# Altium schematic symbol library Capstone_Schematic_Library.SchLib: 73 symbols
Pins are listed as number, name and electrical type; pins without a type are passive.

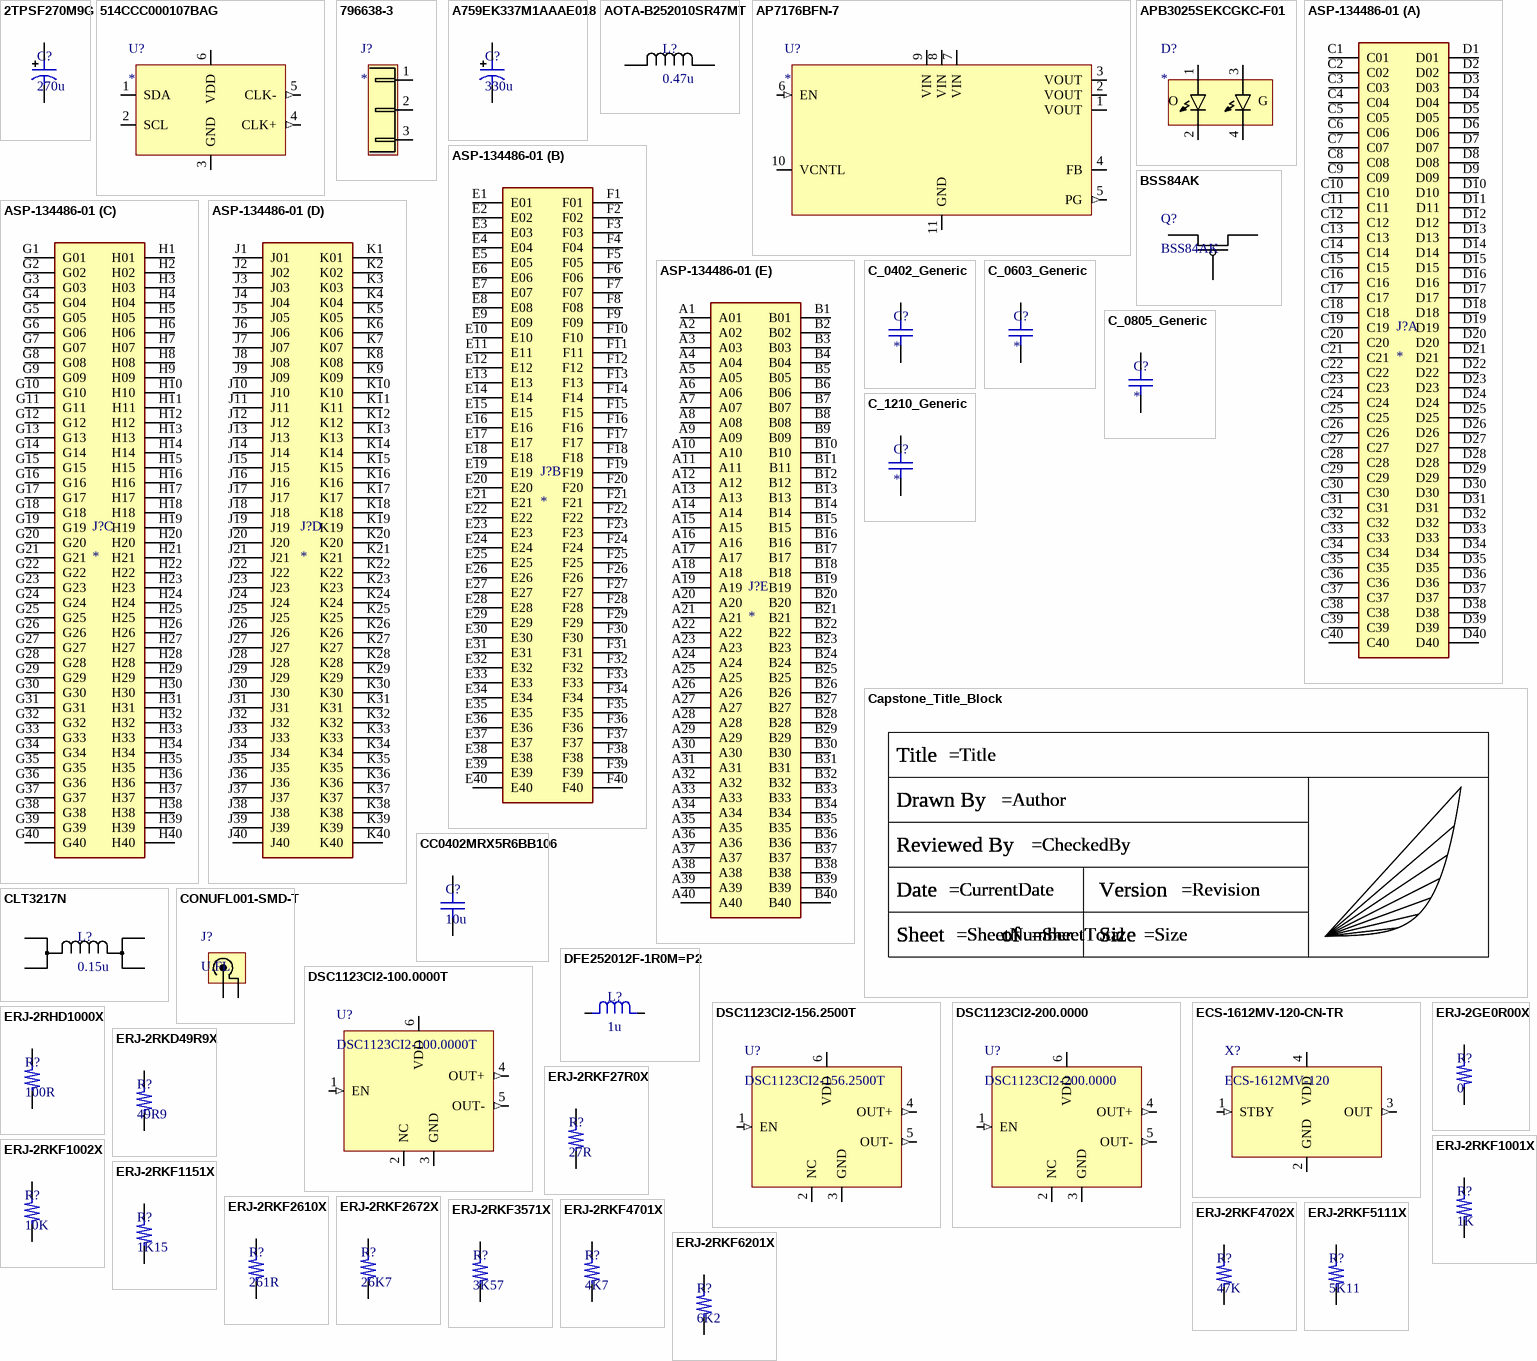
[diagram p0: symbols 2TPSF270M9G to ERJ-2RKF6201X]

## 2TPSF270M9G
designator C?, comment 270u
270µF 2V 9mOhm SMD tantalum capacitor in EIA-3528-21size; Manufacturer: Panasonic; Manufacturer Part Number: 2TPSF270M9G
footprint C_TANT_EIA-3528-21_A (Footprint for tantalum capacitors using the EIA-3528-21 package, adapted from KiCad)
pins: 1, 2

## 514CCC000107BAG
designator U?
I2C Programmable oscillator differential/single-ended 0.1-125 MHz; Manufacturer: Skyworks Solutions; Manufacturer Part Number: 514CCC000107BAG
footprint Si514_Size-B (Footprint for Skyworks Solutions's Si514 devices in the B case size (3.2 x 5.0 mm))
pins: 1 SDA (io), 2 SCL (io), 3 GND (power), 4 CLK+ (out), 5 CLK- (out), 6 VDD (power)

## 796638-3
designator J?
3 Position Terminal Block Header, Male Pins, Shrouded / NOTE: Mating wire-to-pin socket is 796635-3; Manufacturer: TE Connectivity; Manufacturer Part Number: 796638-3; Manufacturer2: TE Connectivity; Manufacturer2 Part Number: 796635-3
footprint TE_796638-3 (Footprint for TE Connectivity's 3-pin members of their 796638 series parts)
pins: 1 P1, 2 P2, 3 P3

## A759EK337M1AAAE018
designator C?, comment 330u
330µF 10V Aluminum polymer capacitor, KEMET EK; Manufacturer Part Number: A759EK337M1AAAE018; Manufacturer: KEMET
footprint KEMET_EK_Radial (Footprint for radial capacitors in KEMET's EK size)
pins: 1, 2

## AOTA-B252010SR47MT
designator L?, comment 0.47u
Inductor 0.47uH 5.7A 20mOhm, 1008 (2520 Metric); Manufacturer: Abracon; Manufacturer Part Number: AOTA-B252010SR47MT
footprint ABRACON_0907_L (Footprint for Abracon LLC's 0907 case inductors)
pins: 1 P1, 2 P2

## AP7176BFN-7
designator U?
LDO 0.8-3.12V 3A 10-UFDFN Diodes Incorporated; Manufacturer Part Number: AP7176BFN-7; Manufacturer: Diodes Incorporated
footprint DIODES_INC_U-DFN3030-10 (Footprint for Diodes Incorporated's U-DFN3030-10 package)
pins: 1 VOUT (power), 2 VOUT (power), 3 VOUT (power), 4 FB, 5 PG (out), 6 EN (in), 7 VIN (power), 8 VIN (power), 9 VIN (power), 10 VCNTL, 11 GND (power)

## APB3025SEKCGKC-F01
designator D?
LED 1210 Green/Orange dual 2.1Vf 160deg 60/300 mcd@20mA; Manufacturer: Kingbright; Manufacturer Part Number: APB3025SEKCGKC-F01
footprint KINGBRIGHT_1210_DUAL (Footprint for Kingbright's dual package 1210 LEDs)
pins: 1 A1, 2 C1, 3 A2, 4 C2
text: O; G

## ASP-134486-01
designator J?
400 Position Connector Array, Female Sockets Surface Mount Gold; Manufacturer: Samtec; Manufacturer Part Number: ASP-134486-01
footprint SAMTEC_ASP-134486-01
part A pins: C1 C01, C2 C02, C3 C03, C4 C04, C5 C05, C6 C06, C7 C07, C8 C08, C9 C09, C10, C11, C12, C13, C14, C15, C16, C17, C18, C19, C20, C21, C22, C23, C24, C25, C26, C27, C28, C29, C30, C31, C32, C33, C34, C35, C36, C37, C38, C39, C40, D1 D01, D2 D02, D3 D03, D4 D04, D5 D05, D6 D06, D7 D07, D8 D08, D9 D09, D10, D11, D12, D13, D14, D15, D16, D17, D18, D19, D20, D21, D22, D23, D24, D25, D26, D27, D28, D29, D30, D31, D32, D33, D34, D35, D36, D37, D38, D39, D40
part B pins: E1 E01, E2 E02, E3 E03, E4 E04, E5 E05, E6 E06, E7 E07, E8 E08, E9 E09, E10, E11, E12, E13, E14, E15, E16, E17, E18, E19, E20, E21, E22, E23, E24, E25, E26, E27, E28, E29, E30, E31, E32, E33, E34, E35, E36, E37, E38, E39, E40, F1 F01, F2 F02, F3 F03, F4 F04, F5 F05, F6 F06, F7 F07, F8 F08, F9 F09, F10, F11, F12, F13, F14, F15, F16, F17, F18, F19, F20, F21, F22, F23, F24, F25, F26, F27, F28, F29, F30, F31, F32, F33, F34, F35, F36, F37, F38, F39, F40
part C pins: G1 G01, G2 G02, G3 G03, G4 G04, G5 G05, G6 G06, G7 G07, G8 G08, G9 G09, G10, G11, G12, G13, G14, G15, G16, G17, G18, G19, G20, G21, G22, G23, G24, G25, G26, G27, G28, G29, G30, G31, G32, G33, G34, G35, G36, G37, G38, G39, G40, H1 H01, H2 H02, H3 H03, H4 H04, H5 H05, H6 H06, H7 H07, H8 H08, H9 H09, H10, H11, H12, H13, H14, H15, H16, H17, H18, H19, H20, H21, H22, H23, H24, H25, H26, H27, H28, H29, H30, H31, H32, H33, H34, H35, H36, H37, H38, H39, H40
part D pins: J1 J01, J2 J02, J3 J03, J4 J04, J5 J05, J6 J06, J7 J07, J8 J08, J9 J09, J10, J11, J12, J13, J14, J15, J16, J17, J18, J19, J20, J21, J22, J23, J24, J25, J26, J27, J28, J29, J30, J31, J32, J33, J34, J35, J36, J37, J38, J39, J40, K1 K01, K2 K02, K3 K03, K4 K04, K5 K05, K6 K06, K7 K07, K8 K08, K9 K09, K10, K11, K12, K13, K14, K15, K16, K17, K18, K19, K20, K21, K22, K23, K24, K25, K26, K27, K28, K29, K30, K31, K32, K33, K34, K35, K36, K37, K38, K39, K40
part E pins: A1 A01, A2 A02, A3 A03, A4 A04, A5 A05, A6 A06, A7 A07, A8 A08, A9 A09, A10, A11, A12, A13, A14, A15, A16, A17, A18, A19, A20, A21, A22, A23, A24, A25, A26, A27, A28, A29, A30, A31, A32, A33, A34, A35, A36, A37, A38, A39, A40, B1 B01, B2 B02, B3 B03, B4 B04, B5 B05, B6 B06, B7 B07, B8 B08, B9 B09, B10, B11, B12, B13, B14, B15, B16, B17, B18, B19, B20, B21, B22, B23, B24, B25, B26, B27, B28, B29, B30, B31, B32, B33, B34, B35, B36, B37, B38, B39, B40

## BSS84AK
designator Q?
PMOS 50V 180mA TO236AB NXP/Nexperia; Manufacturer Part Number: BSS84AK,215; Manufacturer: NXP/Nexperia
footprint SOT23 _TO-236AB (Generic footrpint for SOT23/TO-236AB devices)
pins: 1 G, 2 S, 3 D

## C_0402_Generic
designator C?
Generic SMD ceramic capacitor in 0402 size; Manufacturer: *; Manufacturer Part Number: *
footprint C_0402_Generic (Generic 0402 capacitor footprint based on the KiCad default library)
pins: 1, 2

## C_0603_Generic
designator C?
Generic SMD ceramic capacitor in 0603 size; Manufacturer: *; Manufacturer Part Number: *
footprint C_0603_Generic (Generic 0603 capacitor footprint based on the KiCad default library)
pins: 1, 2

## C_0805_Generic
designator C?
Generic SMD ceramic capacitor in 0805 size; Manufacturer: *; Manufacturer Part Number: *
footprint C_0805_Generic (Generic 0805 capacitor footprint based on the KiCad default library)
pins: 1, 2

## C_1210_Generic
designator C?
Generic SMD ceramic capacitor in 1210 size; Manufacturer: *; Manufacturer Part Number: *
footprint C_1210_GENERIC (Generic 1210 capacitor footprint based on the KiCad default library)
pins: 1, 2

## Capstone_Title_Block
designator TITLEBLOCK?  (value not drawn)  (graphical)
Custom title block with personal logo; Manufacturer: NONE; Manufacturer Part Number: NONE
text: Title; Drawn By; Reviewed By; Date; Version; Sheet; of; Size

## CC0402MRX5R6BB106
designator C?, comment 10u
10µF 10V X5R SMD ceramic capacitor in 0402 size; Manufacturer: YAGEO; Manufacturer Part Number: CC0402MRX5R6BB106
footprint C_0402_Generic (Generic 0402 capacitor footprint based on the KiCad default library)
pins: 1, 2

## CLT3217N
designator L?, comment 0.15u
Inductor 150nH 3.3mOhm 25.4A AEC-Q200, TDK; Manufacturer: EPCOS/TDK; Manufacturer Part Number: CLT32-17N
footprint TDK_CLT32 (TDK Power Inductors, 3.2 x 2.5 x 2.5 (mm))
pins: 1 P1, 2 P2, 3 P3, 4 P4

## CONUFL001-SMD-T
designator J?, comment U.FL
U.FL (UMCC) Connector, SMD, 50Ohm; Manufacturer: TE Connectivity; Manufacturer Part Number: CONUFL001-SMD-T
footprint TE_IPEX (Footprint for TE Connectivity's U.FL (UMCC) connectors)
pins: 1 RF, 2 GND

## DFE252012F-1R0M=P2
designator L?, comment 1u
1µH Shielded 3.3A 40mOhm 1008 Inductor; Manufacturer: Murata Electronics; Manufacturer Part Number: DFE252012F-1R0M=P2
footprint Murata_Ind_1008
pins: 1, 2

## DSC1123CI2-100.0000T
designator U?
MEMS OSC XO 100.0000MHZ LVDS SMD; Manufacturer: Microchip Technology; Manufacturer Part Number: DSC1123CI2-100.0000T
footprint Microchip_DSC1123CI2 (A footprint for a Microchip Technology DSC1123 series oscillator in 6-VDFN size)
pins: 1 EN (in), 2 NC, 3 GND (power), 4 OUT+ (out), 5 OUT- (out), 6 VDD (power)

## DSC1123CI2-156.2500T
designator U?
MEMS OSC XO 156.2500MHZ LVDS SMD; Manufacturer: Microchip Technology; Manufacturer Part Number: DSC1123CI2-156.2500T
footprint Microchip_DSC1123CI2 (A footprint for a Microchip Technology DSC1123 series oscillator in 6-VDFN size)
pins: 1 EN (in), 2 NC, 3 GND (power), 4 OUT+ (out), 5 OUT- (out), 6 VDD (power)

## DSC1123CI2-200.0000
designator U?
MEMS OSC XO 200.0000MHZ LVDS SMD; Manufacturer: Microchip Technology; Manufacturer Part Number: DSC1123CI2-200.0000
footprint Microchip_DSC1123CI2 (A footprint for a Microchip Technology DSC1123 series oscillator in 6-VDFN size)
pins: 1 EN (in), 2 NC, 3 GND (power), 4 OUT+ (out), 5 OUT- (out), 6 VDD (power)

## ECS-1612MV-120-CN-TR
designator X?, comment ECS-1612MV-120
12 MHz XO (Standard) CMOS Oscillator 1.6V ~ 3.63V Standby (Power Down) 4-SMD, No Lead; Manufacturer: ECS Inc; Manufacturer Part Number: ECS-1612MV-120-CN-TR
footprint ECS 4-SMD (1.6X1.2) (Footprint for ECS Inc's 4-SMD 0.063" L x 0.047" W (1.60mm x 1.20mm) package)
pins: 1 STBY (in), 2 GND (power), 3 OUT (out), 4 VDD (power)

## ERJ-2GE0R00X
designator R?, comment 0
Jumper 0Ohm SMD resistor in 0402 size; Manufacturer: Panasonic; Manufacturer Part Number: ERJ-2GE0R00X
footprint R_0402_Generic (Generic 0402 resistor footprint based on the KiCad default library)
pins: 1, 2

## ERJ-2RHD1000X
designator R?, comment 100R
100Ohm 0.5% 1/16W SMD resistor in 0402 size; Manufacturer: Panasonic; Manufacturer Part Number: ERJ-2RHD1000X
footprint R_0402_Generic (Generic 0402 resistor footprint based on the KiCad default library)
pins: 1, 2

## ERJ-2RKD49R9X
designator R?, comment 49R9
49.9Ohm 0.5% 1/16W SMD resistor in 0402 size; Manufacturer: Panasonic; Manufacturer Part Number: ERJ-2RKD49R9X
footprint R_0402_Generic (Generic 0402 resistor footprint based on the KiCad default library)
pins: 1, 2

## ERJ-2RKF27R0X
designator R?, comment 27R
27Ohm 1% 1/10W SMD resistor in 0402 size; Manufacturer: Panasonic; Manufacturer Part Number: ERJ-2RKF27R0X
footprint R_0402_Generic (Generic 0402 resistor footprint based on the KiCad default library)
pins: 1, 2

## ERJ-2RKF1001X
designator R?, comment 1K
1KOhm 1% 1/10W SMD resistor in 0402 size; Manufacturer: Panasonic; Manufacturer Part Number: ERJ-2RKF1001X
footprint R_0402_Generic (Generic 0402 resistor footprint based on the KiCad default library)
pins: 1, 2

## ERJ-2RKF1002X
designator R?, comment 10K
10KOhm 1% 1/10W SMD resistor in 0402 size; Manufacturer: Panasonic; Manufacturer Part Number: ERJ-2RKF1002X
footprint R_0402_Generic (Generic 0402 resistor footprint based on the KiCad default library)
pins: 1, 2

## ERJ-2RKF1151X
designator R?, comment 1K15
1.15KOhm 1% 1/10W SMD resistor in 0402 size; Manufacturer: Panasonic; Manufacturer Part Number: ERJ-2RKF1151X
footprint R_0402_Generic (Generic 0402 resistor footprint based on the KiCad default library)
pins: 1, 2

## ERJ-2RKF2610X
designator R?, comment 261R
261Ohm 1% 1/10W SMD resistor in 0402 size; Manufacturer: Panasonic; Manufacturer Part Number: ERJ-2RKF2610X
footprint R_0402_Generic (Generic 0402 resistor footprint based on the KiCad default library)
pins: 1, 2

## ERJ-2RKF2672X
designator R?, comment 26K7
26.7KOhm 1% 1/10W SMD resistor in 0402 size; Manufacturer: Panasonic; Manufacturer Part Number: ERJ-2RKF2672X
footprint R_0402_Generic (Generic 0402 resistor footprint based on the KiCad default library)
pins: 1, 2

## ERJ-2RKF3571X
designator R?, comment 3K57
3.57KOhm 1% 1/10W SMD resistor in 0402 size; Manufacturer: Panasonic; Manufacturer Part Number: ERJ-2RKF3571X
footprint R_0402_Generic (Generic 0402 resistor footprint based on the KiCad default library)
pins: 1, 2

## ERJ-2RKF4701X
designator R?, comment 4K7
4.7KOhm 1% 1/10W SMD resistor in 0402 size; Manufacturer: Panasonic; Manufacturer Part Number: ERJ-2RKF4701X
footprint R_0402_Generic (Generic 0402 resistor footprint based on the KiCad default library)
pins: 1, 2

## ERJ-2RKF4702X
designator R?, comment 47K
47KOhm 1% 1/10W SMD resistor in 0402 size; Manufacturer: Panasonic; Manufacturer Part Number: ERJ-2RKF4702X
footprint R_0402_Generic (Generic 0402 resistor footprint based on the KiCad default library)
pins: 1, 2

## ERJ-2RKF5111X
designator R?, comment 5K11
5.11KOhm 1% 1/10W SMD resistor in 0402 size; Manufacturer: Panasonic; Manufacturer Part Number: ERJ-2RKF5111X
footprint R_0402_Generic (Generic 0402 resistor footprint based on the KiCad default library)
pins: 1, 2

## ERJ-2RKF6201X
designator R?, comment 6K2
6.2KOhm 1% 1/10W SMD resistor in 0402 size; Manufacturer: Panasonic; Manufacturer Part Number: ERJ-2RKF6201X
footprint R_0402_Generic (Generic 0402 resistor footprint based on the KiCad default library)
pins: 1, 2

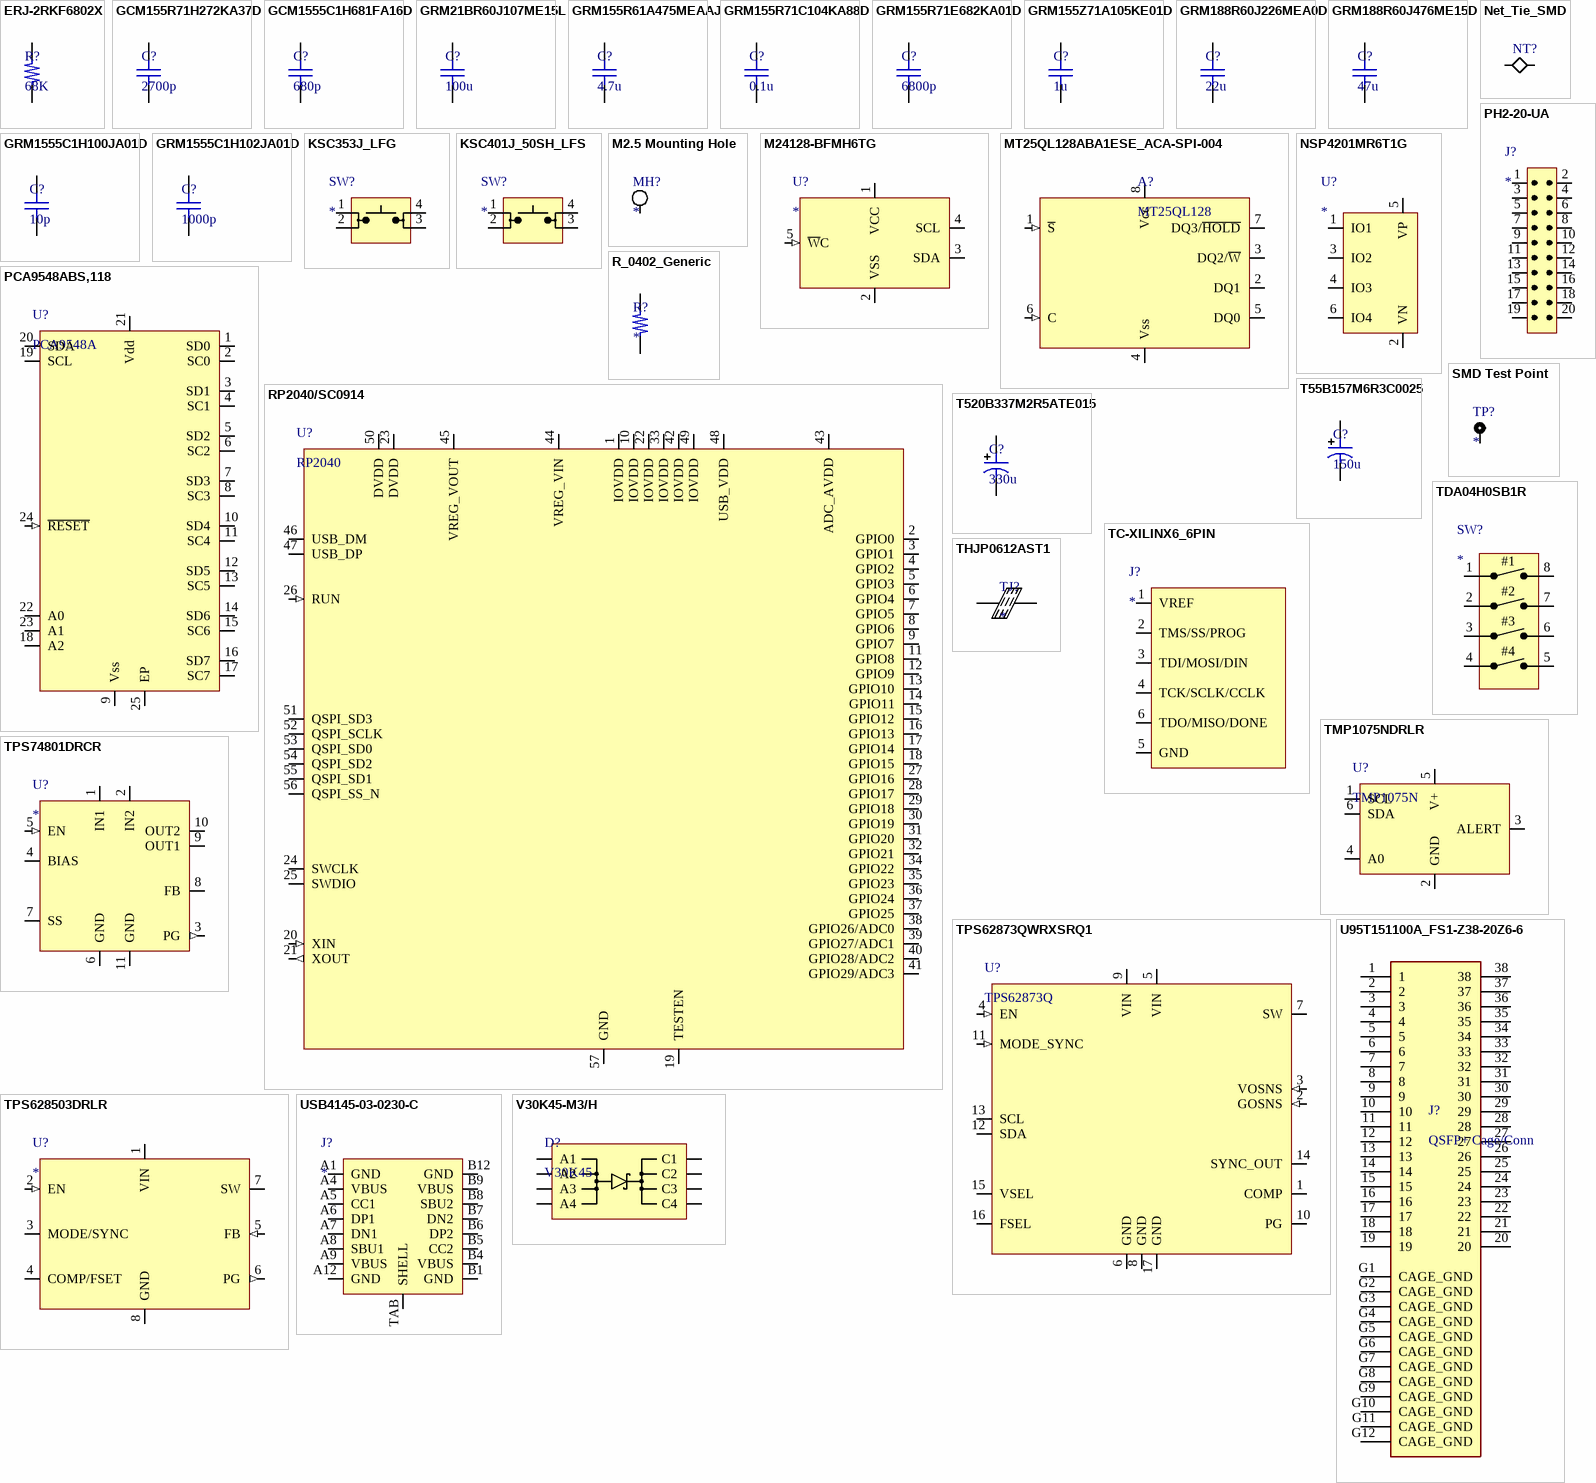
[diagram p1: symbols ERJ-2RKF6802X to V30K45-M3/H]

## ERJ-2RKF6802X
designator R?, comment 68K
68KOhm 1% 1/10W SMD resistor in 0402 size; Manufacturer: Panasonic; Manufacturer Part Number: ERJ-2RKF6802X
footprint R_0402_Generic (Generic 0402 resistor footprint based on the KiCad default library)
pins: 1, 2

## GCM155R71H272KA37D
designator C?, comment 2700p
2700pF 50V X7R SMD ceramic capacitor in 0402 size; Manufacturer: Murata Electronics; Manufacturer Part Number: GCM155R71H272KA37D
footprint C_0402_Generic (Generic 0402 capacitor footprint based on the KiCad default library)
pins: 1, 2

## GCM1555C1H681FA16D
designator C?, comment 680p
680pF 50V C0G/NP0 SMD ceramic capacitor in 0402 size; Manufacturer: Murata Electronics; Manufacturer Part Number: GCM1555C1H681FA16D
footprint C_0402_Generic (Generic 0402 capacitor footprint based on the KiCad default library)
pins: 1, 2

## GRM21BR60J107ME15L
designator C?, comment 100u
100µF 6.3V X5R SMD ceramic capacitor in 0805 size; Manufacturer: Murata Electronics; Manufacturer Part Number: GRM21BR60J107ME15L
footprint C_0805_Generic (Generic 0805 capacitor footprint based on the KiCad default library)
pins: 1, 2

## GRM155R61A475MEAAJ
designator C?, comment 4.7u
4.7µF 10V X5R SMD ceramic capacitor in 0402 size; Manufacturer: Murata Electronics; Manufacturer Part Number: GRM155R61A475MEAAJ
footprint C_0402_Generic (Generic 0402 capacitor footprint based on the KiCad default library)
pins: 1, 2

## GRM155R71C104KA88D
designator C?, comment 0.1u
0.1µF 16V X7R SMD ceramic capacitor in 0402 size; Manufacturer: Murata Electronics; Manufacturer Part Number: GRM155R71C104KA88D
footprint C_0402_Generic (Generic 0402 capacitor footprint based on the KiCad default library)
pins: 1, 2

## GRM155R71E682KA01D
designator C?, comment 6800p
6800pF 25V X7R SMD ceramic capacitor in 0402 size; Manufacturer: Murata Electronics; Manufacturer Part Number: GRM155R71E682KA01D
footprint C_0402_Generic (Generic 0402 capacitor footprint based on the KiCad default library)
pins: 1, 2

## GRM155Z71A105KE01D
designator C?, comment 1u
1µF 10V X7R SMD ceramic capacitor in 0402 size; Manufacturer: Murata Electronics; Manufacturer Part Number: GRM155Z71A105KE01D
footprint C_0402_Generic (Generic 0402 capacitor footprint based on the KiCad default library)
pins: 1, 2

## GRM188R60J226MEA0D
designator C?, comment 22u
22µF 6.3V X5R SMD ceramic capacitor in 0603 size; Manufacturer: Murata Electronics; Manufacturer Part Number: GRM188R60J226MEA0D
footprint C_0603_Generic (Generic 0603 capacitor footprint based on the KiCad default library)
pins: 1, 2

## GRM188R60J476ME15D
designator C?, comment 47u
47µF 6.3V X5R SMD ceramic capacitor in 0603 size; Manufacturer: Murata Electronics; Manufacturer Part Number: GRM188R60J476ME15D
footprint C_0603_Generic (Generic 0603 capacitor footprint based on the KiCad default library)
pins: 1, 2

## GRM1555C1H100JA01D
designator C?, comment 10p
10pF 50V C0G/NP0 SMD ceramic capacitor in 0402 size; Manufacturer: Murata Electronics; Manufacturer Part Number: GRM1555C1H100JA01D
footprint C_0402_Generic (Generic 0402 capacitor footprint based on the KiCad default library)
pins: 1, 2

## GRM1555C1H102JA01D
designator C?, comment 1000p
1000pF 50V C0G/NP0 SMD ceramic capacitor in 0402 size; Manufacturer: Murata Electronics; Manufacturer Part Number: GRM1555C1H102JA01D
footprint C_0402_Generic (Generic 0402 capacitor footprint based on the KiCad default library)
pins: 1, 2

## KSC353J_LFG
designator SW?
Tactile Switch SPST-NO (MOM) SMD back actuator; Manufacturer: C&K; Manufacturer Part Number: KSC353J LFG
footprint C&K_KSC_6.20 (Footprint for C&K'S KSC series 6.2x6.2mm SMD tactile momentary switches)
pins: 1 P1, 2 P2, 3 P3, 4 P4

## KSC401J_50SH_LFS
designator SW?
Tactile Switch SPST-NO (MOM) SMD red long actuator; Manufacturer: C&K; Manufacturer Part Number: KSC401J 50SH LFS
footprint C&K_KSC_6.20 (Footprint for C&K'S KSC series 6.2x6.2mm SMD tactile momentary switches)
pins: 1 P1, 2 P2, 3 P3, 4 P4

## M2.5 Mounting Hole
designator MH?
M.2 Mounting hole; Manufacturer: NONE; Manufacturer Part Number: NONE
footprint M2.5_MOUNTING_HOLE (Mounting hole for M2.5 bolts)
pins: 0

## M24128-BFMH6TG
designator U?
EEPROM 128Kbit I2C 1MHz 450 ns; Manufacturer: STMicroelectronics; Manufacturer Part Number: M24128-BFMH6TG
footprint STM_DFN5 (Footprint for the STMicroelectronics M24128 EEPROMs in the 5-UFDFPN (1.7x1.4 mm) package)
pins: 1 VCC (power), 2 VSS (power), 3 SDA (io), 4 SCL (io), 5 ~{W}C (in)

## MT25QL128ABA1ESE_ACA-SPI-004
designator A?, comment MT25QL128
FLASH - NOR Memory IC 128Mbit SPI (Q)SPI 133 MHz 8-SO In ACA-SPI-004-K01 socket; Manufacturer: Micron Technology Inc; Manufacturer Part Number: MT25QL128ABA1ESE; Manufacturer2: LOTES; Manufacturer2 Part Number: ACA-SPI-004-K01
footprint LOTES_ACA-SPI-004-K01 (LOTES ACA-SPI-004-K01 8 (2 x 4) Pos SOIC Socket)
pins: 1 ~{S} (in) "Chip select (active low)", 2 DQ1 (io) "Serial I/O 1; Serial O when in 1X mode", 3 DQ2/~{W} (io) "Serial I/O 2 and Write protect", 4 Vss (power) "Reference supply (Ground)", 5 DQ0 (io) "Serial I/O 0; Serial I when in 1X mode", 6 C (in) "Clock input", 7 DQ3/~{HOLD} (io) "Serial I/O 3 and hold", 8 Vcc (power) "Supply"

## Net_Tie_SMD
designator NT?, comment NT  (value not drawn)  (net tie, no BOM)
SMD Net Tie; Manufacturer: NONE; Manufacturer Part Number: NONE
footprint SMD_NET_TIE (SMD Net Tie)
pins: 1 P1, 2 P2

## NSP4201MR6T1G
designator U?
4CH 6V Break 12V Clamp TVS Diode USB; Manufacturer: onsemi; Manufacturer Part Number: NSP4201MR6T1G
footprint ONSEMI_6-TSOP (Footprint for onsemi's 6-TSOP/Thin-TSOT-23-6 devices)
pins: 1 IO1, 2 VN (power), 3 IO2, 4 IO3, 5 VP (power), 6 IO4

## PCA9548ABS,118
designator U?, comment PCA9548A
8-channel I 2 C-bus switch, 24-HVQFN; Manufacturer: NXP; Manufacturer Part Number: PCA9548ABS,118
footprint HVQFN24_NXP (QFN, 24-Leads, Body 4.00x4.00mm, Pitch 0.50mm, Thermal Pad 2.10x2.10mm, Modified)
pins: 1 SD0 (io) "Serial Data 0", 2 SC0 (io) "Serial Clock 0", 3 SD1 (io) "Serial Data 1", 4 SC1 (io) "Serial Clock 1", 5 SD2 (io) "Serial Data 2", 6 SC2 (io) "Serial Clock 2", 7 SD3 (io) "Serial Data 3", 8 SC3 (io) "Serial Clock 3", 9 Vss (power) "Supply Ground", 10 SD4 (io) "Serial Data 4", 11 SC4 (io) "Serial Clock 4", 12 SD5 (io) "Serial Data 5", 13 SC5 (io) "Serial Clock 5", 14 SD6 (io) "Serial Data 6", 15 SC6 (io) "Serial Clock 6", 16 SD7 (io) "Serial Data 7", 17 SC7 (io) "Serial Clock 7", 18 A2 "Address Input 2", 19 SCL (io) "Master Serial Clock", 20 SDA (io) "Master Serial Data", 21 Vdd (power) "Supply Voltage", 22 A0 "Address Input 0", 23 A1 "Address Input 1", 24 ~{RESET} (in) "Reset (Active Low)", 25 EP (power) "Supply Ground"

## PH2-20-UA
designator J?
THT Header 20 (2x10) position 0.1"; Manufacturer: Adam Tech; Manufacturer Part Number: PH2-20-UA
footprint ADAM_TECH_PH2-20-UA (Footprint for Adam Tech's PH2-20-UA 2x10 0.1" header)
pins: 1 P1, 2 P2, 3 P3, 4 P4, 5 P5, 6 P6, 7 P7, 8 P8, 9 P9, 10 P10, 11 P11, 12 P12, 13 P13, 14 P14, 15 P15, 16 P16, 17 P17, 18 P18, 19 P19, 20 P20

## R_0402_Generic
designator R?
Generic SMD resistor in 0402 size; Manufacturer: *; Manufacturer Part Number: *
footprint R_0402_Generic (Generic 0402 resistor footprint based on the KiCad default library)
pins: 1, 2

## RP2040/SC0914
designator U?, comment RP2040
ARM Cortex-M0+ - Microcontroller IC 32-Bit Dual-Core 133MHz External Program Memory 56-QFN (7x7); Manufacturer: Raspberry Pi; Manufacturer Part Number: SC0914(7)
footprint RP2040/SC0914 QFN-56 (Footprint for the RP2040 (aka SC0914) microcontroller from the Raspberry Pi Foundation)
pins: 1 IOVDD (power), 2 GPIO0 (io), 3 GPIO1 (io), 4 GPIO2 (io), 5 GPIO3 (io), 6 GPIO4 (io), 7 GPIO5 (io), 8 GPIO6 (io), 9 GPIO7 (io), 10 IOVDD (power), 11 GPIO8 (io), 12 GPIO9 (io), 13 GPIO10 (io), 14 GPIO11 (io), 15 GPIO12 (io), 16 GPIO13 (io), 17 GPIO14 (io), 18 GPIO15 (io), 19 TESTEN, 20 XIN (in), 21 XOUT (out), 22 IOVDD (power), 23 DVDD (power), 24 SWCLK (io), 25 SWDIO (io), 26 RUN (in), 27 GPIO16 (io), 28 GPIO17 (io), 29 GPIO18 (io), 30 GPIO19 (io), 31 GPIO20 (io), 32 GPIO21 (io), 33 IOVDD (power), 34 GPIO22 (io), 35 GPIO23 (io), 36 GPIO24 (io), 37 GPIO25 (io), 38 GPIO26/ADC0 (io), 39 GPIO27/ADC1 (io), 40 GPIO28/ADC2 (io), 41 GPIO29/ADC3 (io), 42 IOVDD (power), 43 ADC_AVDD (power), 44 VREG_VIN, 45 VREG_VOUT, 46 USB_DM (io), 47 USB_DP (io), 48 USB_VDD (power), 49 IOVDD (power), 50 DVDD (power), 51 QSPI_SD3 (io), 52 QSPI_SCLK (io), 53 QSPI_SD0 (io), 54 QSPI_SD2 (io), 55 QSPI_SD1 (io), 56 QSPI_SS_N (io), 57 GND (power)

## SMD Test Point
designator TP?
SMD Test point 3mm circle; Manufacturer: NONE; Manufacturer Part Number: NONE
footprint TP_3MM (SMD Test point 3mm circle)
pins: 1

## T55B157M6R3C0025
designator C?, comment 150u
150µF 6.3V 25mOhm SMD tantalum capacitor in EIA-3528-21size; Manufacturer: Vishay Polytech; Manufacturer Part Number: T55B157M6R3C0025
footprint C_TANT_EIA-3528-21_B (Footprint for tantalum capacitors using the EIA-3528-21 package, adapted from KiCad (Type-B: Alt model))
pins: 1, 2

## T520B337M2R5ATE015
designator C?, comment 330u
330µF 2.5V 15mOhm SMD tantalum capacitor in EIA-3528-21size; Manufacturer: KEMET; Manufacturer Part Number: T520B337M2R5ATE015
footprint C_TANT_EIA-3528-21_B (Footprint for tantalum capacitors using the EIA-3528-21 package, adapted from KiCad (Type-B: Alt model))
pins: 1, 2

## TC-XILINX6_6PIN
designator J?
6-pin (legless) Xilinx JTAG Tag-Connect site; Manufacturer: NONE; Manufacturer2 Part Number: TC2030-IDC-NL; Manufacturer Part Number: NONE; Manufacturer2: Tag-Connect
footprint TAG-CONNECT_NO-LEGS_6PIN (Footprint for Tag-Connect's 6-pin legless JTAG programming site)
pins: 1 VREF (power), 2 TMS/SS/PROG (io), 3 TDI/MOSI/DIN (io), 4 TCK/SCLK/CCLK (io), 5 GND, 6 TDO/MISO/DONE (io)

## TDA04H0SB1R
designator SW?
Dip Switch SPST 4 Position 25mA 24VDC; Manufacturer: C&K; Manufacturer Part Number: TDA04H0SB1R
footprint C&K_TDA_GULL_04POS (Footprint for C&K'S TDA 4-pin DIP slide switche in gull wing package)
pins: 1 1A, 2 1B, 3 1C, 4 1D, 5 2D, 6 2C, 7 2B, 8 2A
text: #1; #2; #3; #4

## THJP0612AST1
designator TJ?
ThermaWick Thermal Jumper 0612; Manufacturer: Vishay Dale; Manufacturer Part Number: THJP0612AST1
footprint ThermaWick_0612 (Thermal Jumper footprint in 0612 (reverse) package)
pins: 1 P1, 2 P2

## TMP1075NDRLR
designator U?, comment TMP1075N
Temperature Sensor Digital, Local -40°C ~ 125°C 12 b SOT-563; Manufacturer: Texas Instruments; Manufacturer Part Number: TMP1075NDRLR
footprint TI_SOT-563 (Texas Instruments SOT-563/SOT-666 footprint)
pins: 1 SCL (io), 2 GND (power), 3 ALERT (oc), 4 A0, 5 V+ (power), 6 SDA (io)

## TPS62873QWRXSRQ1
designator U?, comment TPS62873Q
Switching Voltage Regulators Automotive 2.7-V to 6-V input, 15-A, stackable, synchronous buck converter 16-VQFN-FCRLF -40 to 125C; Manufacturer: Texas Instruments; Manufacturer Part Number: TPS62873QWRXSRQ1
footprint TPS6287x-Q1 (Footprint for the Texas Instruments TPS6287x-Q1 family of PMICs)
pins: 1 COMP, 2 GOSNS (in), 3 VOSNS (in), 4 EN (in), 5 VIN (power), 6 GND (power), 7 SW, 8 GND (power), 9 VIN (power), 10 PG (oc), 11 MODE_SYNC (in), 12 SDA (io), 13 SCL (io), 14 SYNC_OUT, 15 VSEL, 16 FSEL, 17 GND (power)

## TPS74801DRCR
designator U?
LDO 1.5A 10-VSON; Manufacturer: Texas Instruments; Manufacturer Part Number: TPS74801DRCR
footprint TI_10VSON_DRC0010J_ADDVIA (Texas Instruments 10VSON/DRC0010J footprint with more thermal vias than the original design)
pins: 1 IN1 (power), 2 IN2 (power), 3 PG (out), 4 BIAS, 5 EN (in), 6 GND (power), 7 SS, 8 FB, 9 OUT1 (power), 10 OUT2 (power), 11 GND (power)

## TPS628503DRLR
designator U?
Buck Switching Regulator 3A; Manufacturer: Texas Instruments; Manufacturer Part Number: TPS628503DRLR
footprint TI_SOT-583_DRL0008A (Texas Instruments SOT-583/DRL0008A footprint)
pins: 1 VIN (power), 2 EN (in), 3 MODE/SYNC, 4 COMP/FSET (power), 5 FB (in), 6 PG (out), 7 SW, 8 GND (power)

## U95T151100A_FS1-Z38-20Z6-6
designator J?, comment QSFP+ Cage/Conn
Amphenol 38 Position QSFP+ receptacle and cage; Manufacturer: Amphenol ICC; Manufacturer Part Number: U95-T151-100A; Manufacturer2 Part Number: FS1-Z38-20Z6-60; Manufacturer2: Amphenol ICC
footprint AMPHENOL_U95T151100A
pins: 1, 2, 3, 4, 5, 6, 7, 8, 9, 10, 11, 12, 13, 14, 15, 16, 17, 18, 19, 20, 21, 22, 23, 24, 25, 26, 27, 28, 29, 30, 31, 32, 33, 34, 35, 36, 37, 38, G1 CAGE_GND (power), G2 CAGE_GND (power), G3 CAGE_GND (power), G4 CAGE_GND (power), G5 CAGE_GND (power), G6 CAGE_GND (power), G7 CAGE_GND (power), G8 CAGE_GND (power), G9 CAGE_GND (power), G10 CAGE_GND (power), G11 CAGE_GND (power), G12 CAGE_GND (power)

## USB4145-03-0230-C
designator J?
USB 2.0 TYPE-C RECPT VERT XL TABS SMT; Manufacturer: GCT; Manufacturer Part Number: USB4145-03-0230-C
footprint USB4145-03-0230-C (Footprint for GCT's USB4145-03-0xxx-C family of USB-C sockets)
pins: A1 GND (power), A4 VBUS (power), A5 CC1, A6 DP1 (io), A7 DN1 (io), A8 SBU1, A9 VBUS (power), A12 GND (power), B1 GND (power), B4 VBUS (power), B5 CC2, B6 DP2 (io), B7 DN2 (io), B8 SBU2, B9 VBUS (power), B12 GND (power), TAB SHELL

## V30K45-M3/H
designator D?, comment V30K45
Schottky Diode 45V 30A FLATPAK, Vishay; Manufacturer: Vishay General Semiconductor; Manufacturer Part Number: V30K45-M3/H
footprint Vishay_FlatPAK_5x6 (Footprint for the Vishay FlatPAK 5x6 (mm) package)
pins: 1 A1, 2 A2, 3 A3, 4 A4, 5 C1, 6 C2, 7 C3, 8 C4

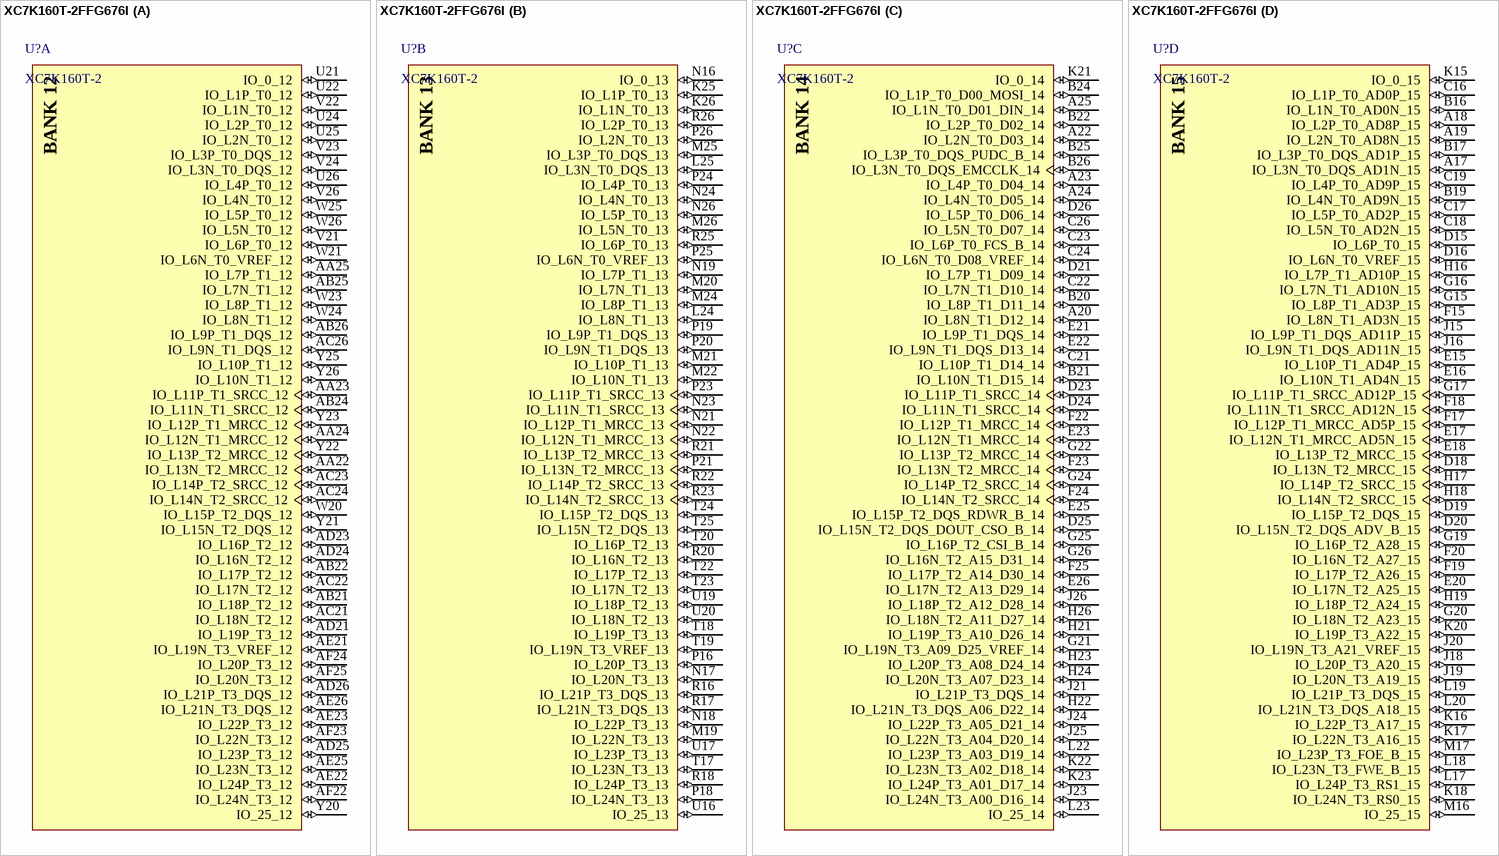
[diagram p2: symbol XC7K160T-2FFG676I]

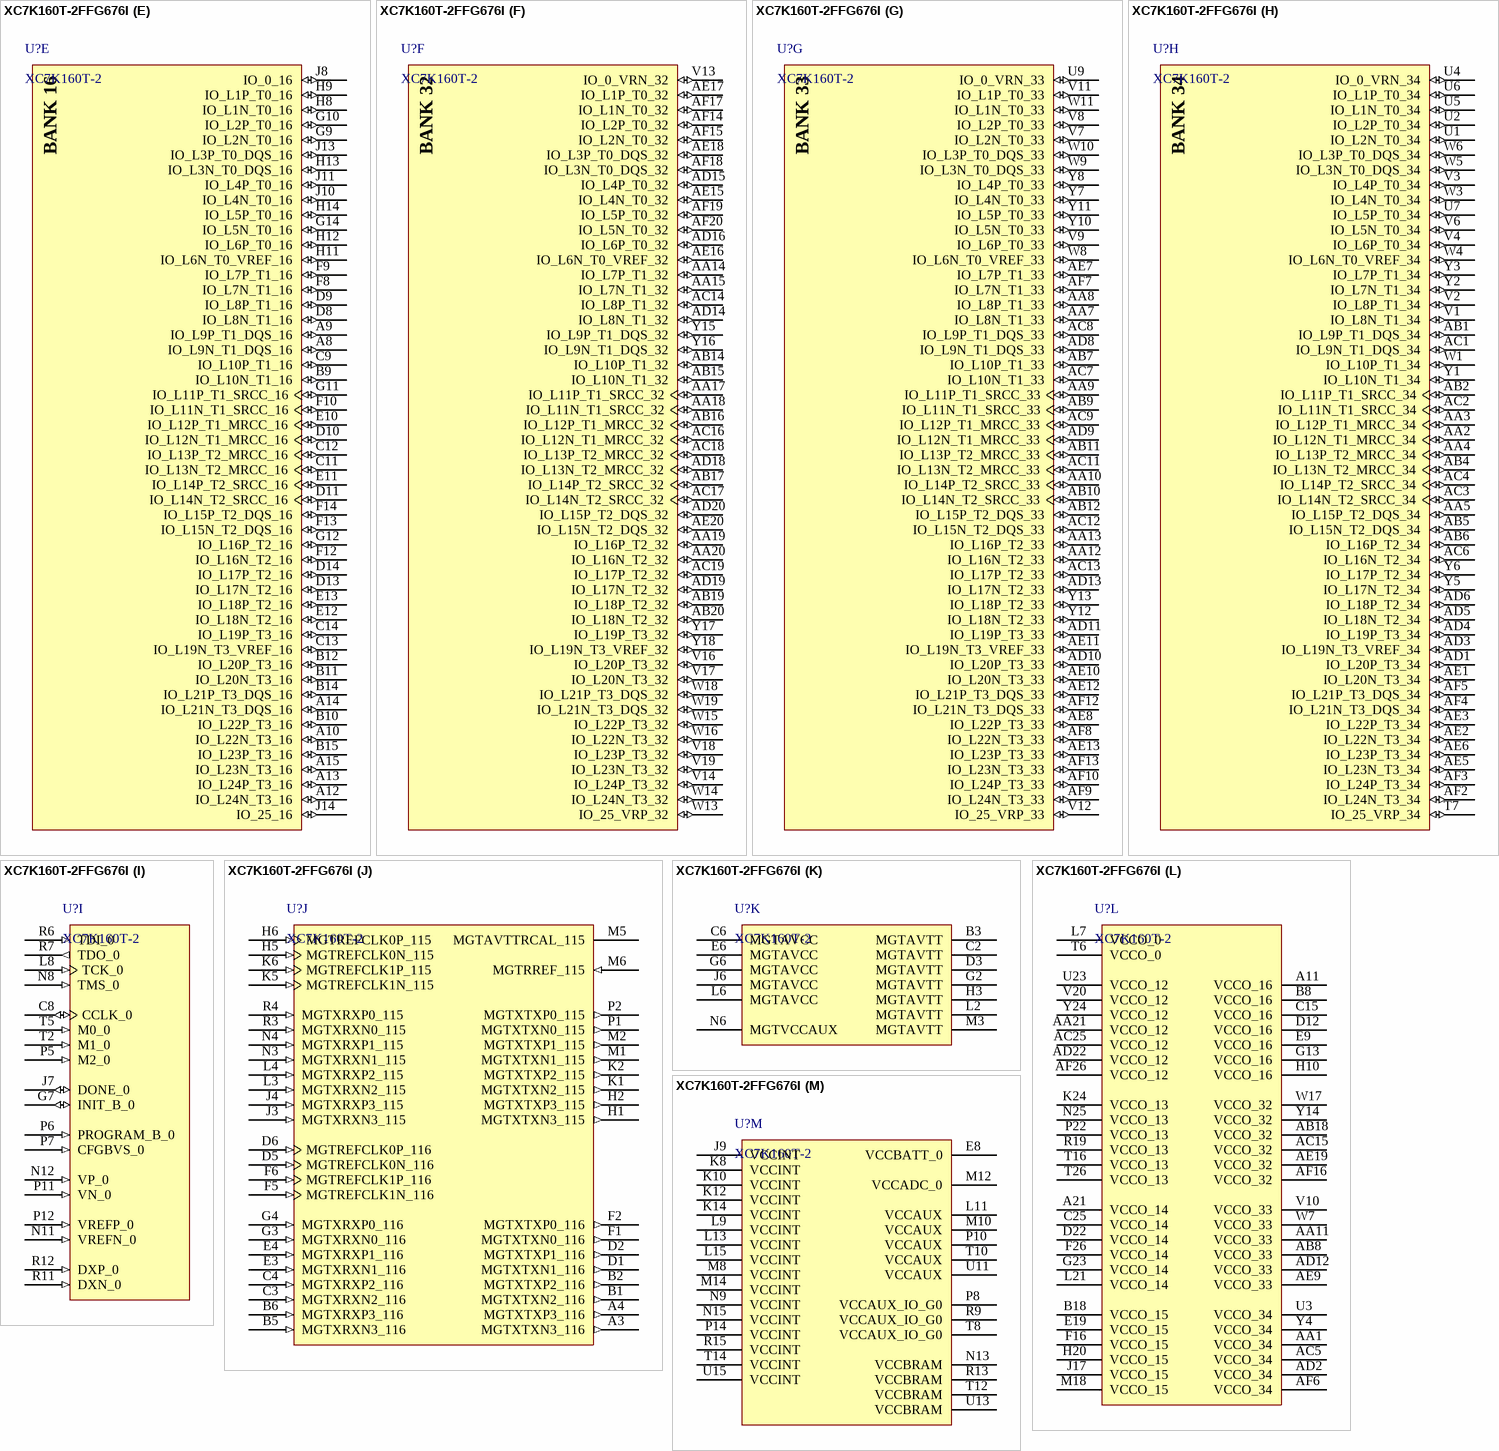
[diagram p3: symbol XC7K160T-2FFG676I]

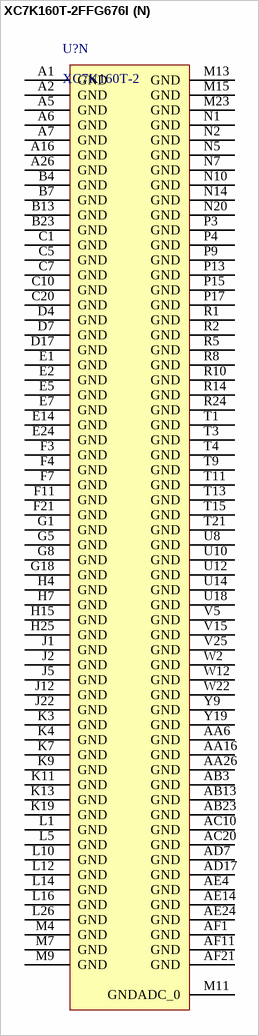
[diagram p4: symbol XC7K160T-2FFG676I]

## XC7K160T-2FFG676I
designator U?, comment XC7K160T-2
Kintex-7 FPGA, 400 User I/Os, 8 GTX, 676-Ball BGA, Speed Grade 2, Industrial Grade, Pb-Free; Manufacturer: AMD/Xilinx; Manufacturer Part Number: XC7K160T-2FFG676I
footprint FFG676_(XC7K160T-2FFG676I) (BGA, 676-Balls, Body 27x27mm, Pitch 1.0mm, Average package delays included)
part A pins: AA22 IO_L13N_T2_MRCC_12 (io), AA23 IO_L11P_T1_SRCC_12 (io), AA24 IO_L12N_T1_MRCC_12 (io), AA25 IO_L7P_T1_12 (io), AB21 IO_L18P_T2_12 (io), AB22 IO_L17P_T2_12 (io), AB24 IO_L11N_T1_SRCC_12 (io), AB25 IO_L7N_T1_12 (io), AB26 IO_L9P_T1_DQS_12 (io), AC21 IO_L18N_T2_12 (io), AC22 IO_L17N_T2_12 (io), AC23 IO_L14P_T2_SRCC_12 (io), AC24 IO_L14N_T2_SRCC_12 (io), AC26 IO_L9N_T1_DQS_12 (io), AD21 IO_L19P_T3_12 (io), AD23 IO_L16P_T2_12 (io), AD24 IO_L16N_T2_12 (io), AD25 IO_L23P_T3_12 (io), AD26 IO_L21P_T3_DQS_12 (io), AE21 IO_L19N_T3_VREF_12 (io), AE22 IO_L24P_T3_12 (io), AE23 IO_L22P_T3_12 (io), AE25 IO_L23N_T3_12 (io), AE26 IO_L21N_T3_DQS_12 (io), AF22 IO_L24N_T3_12 (io), AF23 IO_L22N_T3_12 (io), AF24 IO_L20P_T3_12 (io), AF25 IO_L20N_T3_12 (io), U21 IO_0_12 (io), U22 IO_L1P_T0_12 (io), U24 IO_L2P_T0_12 (io), U25 IO_L2N_T0_12 (io), U26 IO_L4P_T0_12 (io), V21 IO_L6P_T0_12 (io), V22 IO_L1N_T0_12 (io), V23 IO_L3P_T0_DQS_12 (io), V24 IO_L3N_T0_DQS_12 (io), V26 IO_L4N_T0_12 (io), W20 IO_L15P_T2_DQS_12 (io), W21 IO_L6N_T0_VREF_12 (io), W23 IO_L8P_T1_12 (io), W24 IO_L8N_T1_12 (io), W25 IO_L5P_T0_12 (io), W26 IO_L5N_T0_12 (io), Y20 IO_25_12 (io), Y21 IO_L15N_T2_DQS_12 (io), Y22 IO_L13P_T2_MRCC_12 (io), Y23 IO_L12P_T1_MRCC_12 (io), Y25 IO_L10P_T1_12 (io), Y26 IO_L10N_T1_12 (io)
part B pins: K25 IO_L1P_T0_13 (io), K26 IO_L1N_T0_13 (io), L24 IO_L8N_T1_13 (io), L25 IO_L3N_T0_DQS_13 (io), M19 IO_L22N_T3_13 (io), M20 IO_L7N_T1_13 (io), M21 IO_L10P_T1_13 (io), M22 IO_L10N_T1_13 (io), M24 IO_L8P_T1_13 (io), M25 IO_L3P_T0_DQS_13 (io), M26 IO_L5N_T0_13 (io), N16 IO_0_13 (io), N17 IO_L20N_T3_13 (io), N18 IO_L22P_T3_13 (io), N19 IO_L7P_T1_13 (io), N21 IO_L12P_T1_MRCC_13 (io), N22 IO_L12N_T1_MRCC_13 (io), N23 IO_L11N_T1_SRCC_13 (io), N24 IO_L4N_T0_13 (io), N26 IO_L5P_T0_13 (io), P16 IO_L20P_T3_13 (io), P18 IO_L24N_T3_13 (io), P19 IO_L9P_T1_DQS_13 (io), P20 IO_L9N_T1_DQS_13 (io), P21 IO_L13N_T2_MRCC_13 (io), P23 IO_L11P_T1_SRCC_13 (io), P24 IO_L4P_T0_13 (io), P25 IO_L6N_T0_VREF_13 (io), P26 IO_L2N_T0_13 (io), R16 IO_L21P_T3_DQS_13 (io), R17 IO_L21N_T3_DQS_13 (io), R18 IO_L24P_T3_13 (io), R20 IO_L16N_T2_13 (io), R21 IO_L13P_T2_MRCC_13 (io), R22 IO_L14P_T2_SRCC_13 (io), R23 IO_L14N_T2_SRCC_13 (io), R25 IO_L6P_T0_13 (io), R26 IO_L2P_T0_13 (io), T17 IO_L23N_T3_13 (io), T18 IO_L19P_T3_13 (io), T19 IO_L19N_T3_VREF_13 (io), T20 IO_L16P_T2_13 (io), T22 IO_L17P_T2_13 (io), T23 IO_L17N_T2_13 (io), T24 IO_L15P_T2_DQS_13 (io), T25 IO_L15N_T2_DQS_13 (io), U16 IO_25_13 (io), U17 IO_L23P_T3_13 (io), U19 IO_L18P_T2_13 (io), U20 IO_L18N_T2_13 (io)
part C pins: A20 IO_L8N_T1_D12_14 (io), A22 IO_L2N_T0_D03_14 (io), A23 IO_L4P_T0_D04_14 (io), A24 IO_L4N_T0_D05_14 (io), A25 IO_L1N_T0_D01_DIN_14 (io), B20 IO_L8P_T1_D11_14 (io), B21 IO_L10N_T1_D15_14 (io), B22 IO_L2P_T0_D02_14 (io), B24 IO_L1P_T0_D00_MOSI_14 (io), B25 IO_L3P_T0_DQS_PUDC_B_14 (io), B26 IO_L3N_T0_DQS_EMCCLK_14 (io), C21 IO_L10P_T1_D14_14 (io), C22 IO_L7N_T1_D10_14 (io), C23 IO_L6P_T0_FCS_B_14 (io), C24 IO_L6N_T0_D08_VREF_14 (io), C26 IO_L5N_T0_D07_14 (io), D21 IO_L7P_T1_D09_14 (io), D23 IO_L11P_T1_SRCC_14 (io), D24 IO_L11N_T1_SRCC_14 (io), D25 IO_L15N_T2_DQS_DOUT_CSO_B_14 (io), D26 IO_L5P_T0_D06_14 (io), E21 IO_L9P_T1_DQS_14 (io), E22 IO_L9N_T1_DQS_D13_14 (io), E23 IO_L12N_T1_MRCC_14 (io), E25 IO_L15P_T2_DQS_RDWR_B_14 (io), E26 IO_L17N_T2_A13_D29_14 (io), F22 IO_L12P_T1_MRCC_14 (io), F23 IO_L13N_T2_MRCC_14 (io), F24 IO_L14N_T2_SRCC_14 (io), F25 IO_L17P_T2_A14_D30_14 (io), G21 IO_L19N_T3_A09_D25_VREF_14 (io), G22 IO_L13P_T2_MRCC_14 (io), G24 IO_L14P_T2_SRCC_14 (io), G25 IO_L16P_T2_CSI_B_14 (io), G26 IO_L16N_T2_A15_D31_14 (io), H21 IO_L19P_T3_A10_D26_14 (io), H22 IO_L21N_T3_DQS_A06_D22_14 (io), H23 IO_L20P_T3_A08_D24_14 (io), H24 IO_L20N_T3_A07_D23_14 (io), H26 IO_L18N_T2_A11_D27_14 (io), J21 IO_L21P_T3_DQS_14 (io), J23 IO_L24N_T3_A00_D16_14 (io), J24 IO_L22P_T3_A05_D21_14 (io), J25 IO_L22N_T3_A04_D20_14 (io), J26 IO_L18P_T2_A12_D28_14 (io), K21 IO_0_14 (io), K22 IO_L23N_T3_A02_D18_14 (io), K23 IO_L24P_T3_A01_D17_14 (io), L22 IO_L23P_T3_A03_D19_14 (io), L23 IO_25_14 (io)
part D pins: A17 IO_L3N_T0_DQS_AD1N_15 (io), A18 IO_L2P_T0_AD8P_15 (io), A19 IO_L2N_T0_AD8N_15 (io), B16 IO_L1N_T0_AD0N_15 (io), B17 IO_L3P_T0_DQS_AD1P_15 (io), B19 IO_L4N_T0_AD9N_15 (io), C16 IO_L1P_T0_AD0P_15 (io), C17 IO_L5P_T0_AD2P_15 (io), C18 IO_L5N_T0_AD2N_15 (io), C19 IO_L4P_T0_AD9P_15 (io), D15 IO_L6P_T0_15 (io), D16 IO_L6N_T0_VREF_15 (io), D18 IO_L13N_T2_MRCC_15 (io), D19 IO_L15P_T2_DQS_15 (io), D20 IO_L15N_T2_DQS_ADV_B_15 (io), E15 IO_L10P_T1_AD4P_15 (io), E16 IO_L10N_T1_AD4N_15 (io), E17 IO_L12N_T1_MRCC_AD5N_15 (io), E18 IO_L13P_T2_MRCC_15 (io), E20 IO_L17N_T2_A25_15 (io), F15 IO_L8N_T1_AD3N_15 (io), F17 IO_L12P_T1_MRCC_AD5P_15 (io), F18 IO_L11N_T1_SRCC_AD12N_15 (io), F19 IO_L17P_T2_A26_15 (io), F20 IO_L16N_T2_A27_15 (io), G15 IO_L8P_T1_AD3P_15 (io), G16 IO_L7N_T1_AD10N_15 (io), G17 IO_L11P_T1_SRCC_AD12P_15 (io), G19 IO_L16P_T2_A28_15 (io), G20 IO_L18N_T2_A23_15 (io), H16 IO_L7P_T1_AD10P_15 (io), H17 IO_L14P_T2_SRCC_15 (io), H18 IO_L14N_T2_SRCC_15 (io), H19 IO_L18P_T2_A24_15 (io), J15 IO_L9P_T1_DQS_AD11P_15 (io), J16 IO_L9N_T1_DQS_AD11N_15 (io), J18 IO_L20P_T3_A20_15 (io), J19 IO_L20N_T3_A19_15 (io), J20 IO_L19N_T3_A21_VREF_15 (io), K15 IO_0_15 (io), K16 IO_L22P_T3_A17_15 (io), K17 IO_L22N_T3_A16_15 (io), K18 IO_L24N_T3_RS0_15 (io), K20 IO_L19P_T3_A22_15 (io), L17 IO_L24P_T3_RS1_15 (io), L18 IO_L23N_T3_FWE_B_15 (io), L19 IO_L21P_T3_DQS_15 (io), L20 IO_L21N_T3_DQS_A18_15 (io), M16 IO_25_15 (io), M17 IO_L23P_T3_FOE_B_15 (io)
part E pins: A8 IO_L9N_T1_DQS_16 (io), A9 IO_L9P_T1_DQS_16 (io), A10 IO_L22N_T3_16 (io), A12 IO_L24N_T3_16 (io), A13 IO_L24P_T3_16 (io), A14 IO_L21N_T3_DQS_16 (io), A15 IO_L23N_T3_16 (io), B9 IO_L10N_T1_16 (io), B10 IO_L22P_T3_16 (io), B11 IO_L20N_T3_16 (io), B12 IO_L20P_T3_16 (io), B14 IO_L21P_T3_DQS_16 (io), B15 IO_L23P_T3_16 (io), C9 IO_L10P_T1_16 (io), C11 IO_L13N_T2_MRCC_16 (io), C12 IO_L13P_T2_MRCC_16 (io), C13 IO_L19N_T3_VREF_16 (io), C14 IO_L19P_T3_16 (io), D8 IO_L8N_T1_16 (io), D9 IO_L8P_T1_16 (io), D10 IO_L12N_T1_MRCC_16 (io), D11 IO_L14N_T2_SRCC_16 (io), D13 IO_L17N_T2_16 (io), D14 IO_L17P_T2_16 (io), E10 IO_L12P_T1_MRCC_16 (io), E11 IO_L14P_T2_SRCC_16 (io), E12 IO_L18N_T2_16 (io), E13 IO_L18P_T2_16 (io), F8 IO_L7N_T1_16 (io), F9 IO_L7P_T1_16 (io), F10 IO_L11N_T1_SRCC_16 (io), F12 IO_L16N_T2_16 (io), F13 IO_L15N_T2_DQS_16 (io), F14 IO_L15P_T2_DQS_16 (io), G9 IO_L2N_T0_16 (io), G10 IO_L2P_T0_16 (io), G11 IO_L11P_T1_SRCC_16 (io), G12 IO_L16P_T2_16 (io), G14 IO_L5N_T0_16 (io), H8 IO_L1N_T0_16 (io), H9 IO_L1P_T0_16 (io), H11 IO_L6N_T0_VREF_16 (io), H12 IO_L6P_T0_16 (io), H13 IO_L3N_T0_DQS_16 (io), H14 IO_L5P_T0_16 (io), J8 IO_0_16 (io), J10 IO_L4N_T0_16 (io), J11 IO_L4P_T0_16 (io), J13 IO_L3P_T0_DQS_16 (io), J14 IO_25_16 (io)
part F pins: AA14 IO_L7P_T1_32 (io), AA15 IO_L7N_T1_32 (io), AA17 IO_L11P_T1_SRCC_32 (io), AA18 IO_L11N_T1_SRCC_32 (io), AA19 IO_L16P_T2_32 (io), AA20 IO_L16N_T2_32 (io), AB14 IO_L10P_T1_32 (io), AB15 IO_L10N_T1_32 (io), AB16 IO_L12P_T1_MRCC_32 (io), AB17 IO_L14P_T2_SRCC_32 (io), AB19 IO_L18P_T2_32 (io), AB20 IO_L18N_T2_32 (io), AC14 IO_L8P_T1_32 (io), AC16 IO_L12N_T1_MRCC_32 (io), AC17 IO_L14N_T2_SRCC_32 (io), AC18 IO_L13P_T2_MRCC_32 (io), AC19 IO_L17P_T2_32 (io), AD14 IO_L8N_T1_32 (io), AD15 IO_L4P_T0_32 (io), AD16 IO_L6P_T0_32 (io), AD18 IO_L13N_T2_MRCC_32 (io), AD19 IO_L17N_T2_32 (io), AD20 IO_L15P_T2_DQS_32 (io), AE15 IO_L4N_T0_32 (io), AE16 IO_L6N_T0_VREF_32 (io), AE17 IO_L1P_T0_32 (io), AE18 IO_L3P_T0_DQS_32 (io), AE20 IO_L15N_T2_DQS_32 (io), AF14 IO_L2P_T0_32 (io), AF15 IO_L2N_T0_32 (io), AF17 IO_L1N_T0_32 (io), AF18 IO_L3N_T0_DQS_32 (io), AF19 IO_L5P_T0_32 (io), AF20 IO_L5N_T0_32 (io), V13 IO_0_VRN_32 (io), V14 IO_L24P_T3_32 (io), V16 IO_L20P_T3_32 (io), V17 IO_L20N_T3_32 (io), V18 IO_L23P_T3_32 (io), V19 IO_L23N_T3_32 (io), W13 IO_25_VRP_32 (io), W14 IO_L24N_T3_32 (io), W15 IO_L22P_T3_32 (io), W16 IO_L22N_T3_32 (io), W18 IO_L21P_T3_DQS_32 (io), W19 IO_L21N_T3_DQS_32 (io), Y15 IO_L9P_T1_DQS_32 (io), Y16 IO_L9N_T1_DQS_32 (io), Y17 IO_L19P_T3_32 (io), Y18 IO_L19N_T3_VREF_32 (io)
part G pins: AA7 IO_L8N_T1_33 (io), AA8 IO_L8P_T1_33 (io), AA9 IO_L11P_T1_SRCC_33 (io), AA10 IO_L14P_T2_SRCC_33 (io), AA12 IO_L16N_T2_33 (io), AA13 IO_L16P_T2_33 (io), AB7 IO_L10P_T1_33 (io), AB9 IO_L11N_T1_SRCC_33 (io), AB10 IO_L14N_T2_SRCC_33 (io), AB11 IO_L13P_T2_MRCC_33 (io), AB12 IO_L15P_T2_DQS_33 (io), AC7 IO_L10N_T1_33 (io), AC8 IO_L9P_T1_DQS_33 (io), AC9 IO_L12P_T1_MRCC_33 (io), AC11 IO_L13N_T2_MRCC_33 (io), AC12 IO_L15N_T2_DQS_33 (io), AC13 IO_L17P_T2_33 (io), AD8 IO_L9N_T1_DQS_33 (io), AD9 IO_L12N_T1_MRCC_33 (io), AD10 IO_L20P_T3_33 (io), AD11 IO_L19P_T3_33 (io), AD13 IO_L17N_T2_33 (io), AE7 IO_L7P_T1_33 (io), AE8 IO_L22P_T3_33 (io), AE10 IO_L20N_T3_33 (io), AE11 IO_L19N_T3_VREF_33 (io), AE12 IO_L21P_T3_DQS_33 (io), AE13 IO_L23P_T3_33 (io), AF7 IO_L7N_T1_33 (io), AF8 IO_L22N_T3_33 (io), AF9 IO_L24N_T3_33 (io), AF10 IO_L24P_T3_33 (io), AF12 IO_L21N_T3_DQS_33 (io), AF13 IO_L23N_T3_33 (io), U9 IO_0_VRN_33 (io), V7 IO_L2N_T0_33 (io), V8 IO_L2P_T0_33 (io), V9 IO_L6P_T0_33 (io), V11 IO_L1P_T0_33 (io), V12 IO_25_VRP_33 (io), W8 IO_L6N_T0_VREF_33 (io), W9 IO_L3N_T0_DQS_33 (io), W10 IO_L3P_T0_DQS_33 (io), W11 IO_L1N_T0_33 (io), Y7 IO_L4N_T0_33 (io), Y8 IO_L4P_T0_33 (io), Y10 IO_L5N_T0_33 (io), Y11 IO_L5P_T0_33 (io), Y12 IO_L18N_T2_33 (io), Y13 IO_L18P_T2_33 (io)
part H pins: AA2 IO_L12N_T1_MRCC_34 (io), AA3 IO_L12P_T1_MRCC_34 (io), AA4 IO_L13P_T2_MRCC_34 (io), AA5 IO_L15P_T2_DQS_34 (io), AB1 IO_L9P_T1_DQS_34 (io), AB2 IO_L11P_T1_SRCC_34 (io), AB4 IO_L13N_T2_MRCC_34 (io), AB5 IO_L15N_T2_DQS_34 (io), AB6 IO_L16P_T2_34 (io), AC1 IO_L9N_T1_DQS_34 (io), AC2 IO_L11N_T1_SRCC_34 (io), AC3 IO_L14N_T2_SRCC_34 (io), AC4 IO_L14P_T2_SRCC_34 (io), AC6 IO_L16N_T2_34 (io), AD1 IO_L20P_T3_34 (io), AD3 IO_L19N_T3_VREF_34 (io), AD4 IO_L19P_T3_34 (io), AD5 IO_L18N_T2_34 (io), AD6 IO_L18P_T2_34 (io), AE1 IO_L20N_T3_34 (io), AE2 IO_L22N_T3_34 (io), AE3 IO_L22P_T3_34 (io), AE5 IO_L23N_T3_34 (io), AE6 IO_L23P_T3_34 (io), AF2 IO_L24N_T3_34 (io), AF3 IO_L24P_T3_34 (io), AF4 IO_L21N_T3_DQS_34 (io), AF5 IO_L21P_T3_DQS_34 (io), T7 IO_25_VRP_34 (io), U1 IO_L2N_T0_34 (io), U2 IO_L2P_T0_34 (io), U4 IO_0_VRN_34 (io), U5 IO_L1N_T0_34 (io), U6 IO_L1P_T0_34 (io), U7 IO_L5P_T0_34 (io), V1 IO_L8N_T1_34 (io), V2 IO_L8P_T1_34 (io), V3 IO_L4P_T0_34 (io), V4 IO_L6P_T0_34 (io), V6 IO_L5N_T0_34 (io), W1 IO_L10P_T1_34 (io), W3 IO_L4N_T0_34 (io), W4 IO_L6N_T0_VREF_34 (io), W5 IO_L3N_T0_DQS_34 (io), W6 IO_L3P_T0_DQS_34 (io), Y1 IO_L10N_T1_34 (io), Y2 IO_L7N_T1_34 (io), Y3 IO_L7P_T1_34 (io), Y5 IO_L17N_T2_34 (io), Y6 IO_L17P_T2_34 (io)
part I pins: C8 CCLK_0 (io), G7 INIT_B_0 (io), J7 DONE_0 (io), L8 TCK_0 (in), N8 TMS_0 (in), N11 VREFN_0 (in), N12 VP_0 (in), P5 M2_0 (in), P6 PROGRAM_B_0 (in), P7 CFGBVS_0 (in), P11 VN_0 (in), P12 VREFP_0 (in), R6 TDI_0 (in), R7 TDO_0 (out), R11 DXN_0 (in), R12 DXP_0 (in), T2 M1_0 (in), T5 M0_0 (in)
part J pins: A3 MGTXTXN3_116 (out), A4 MGTXTXP3_116 (out), B1 MGTXTXN2_116 (out), B2 MGTXTXP2_116 (out), B5 MGTXRXN3_116 (in), B6 MGTXRXP3_116 (in), C3 MGTXRXN2_116 (in), C4 MGTXRXP2_116 (in), D1 MGTXTXN1_116 (out), D2 MGTXTXP1_116 (out), D5 MGTREFCLK0N_116 (in), D6 MGTREFCLK0P_116 (in), E3 MGTXRXN1_116 (in), E4 MGTXRXP1_116 (in), F1 MGTXTXN0_116 (out), F2 MGTXTXP0_116 (out), F5 MGTREFCLK1N_116 (in), F6 MGTREFCLK1P_116 (in), G3 MGTXRXN0_116 (in), G4 MGTXRXP0_116 (in), H1 MGTXTXN3_115 (out), H2 MGTXTXP3_115 (out), H5 MGTREFCLK0N_115 (in), H6 MGTREFCLK0P_115 (in), J3 MGTXRXN3_115 (in), J4 MGTXRXP3_115 (in), K1 MGTXTXN2_115 (out), K2 MGTXTXP2_115 (out), K5 MGTREFCLK1N_115 (in), K6 MGTREFCLK1P_115 (in), L3 MGTXRXN2_115 (in), L4 MGTXRXP2_115 (in), M1 MGTXTXN1_115 (out), M2 MGTXTXP1_115 (out), M5 MGTAVTTRCAL_115, M6 MGTRREF_115 (in), N3 MGTXRXN1_115 (in), N4 MGTXRXP1_115 (in), P1 MGTXTXN0_115 (out), P2 MGTXTXP0_115 (out), R3 MGTXRXN0_115 (in), R4 MGTXRXP0_115 (in)
part K pins: B3 MGTAVTT (power), C2 MGTAVTT (power), C6 MGTAVCC (power), D3 MGTAVTT (power), E6 MGTAVCC (power), G2 MGTAVTT (power), G6 MGTAVCC (power), H3 MGTAVTT (power), J6 MGTAVCC (power), L2 MGTAVTT (power), L6 MGTAVCC (power), M3 MGTAVTT (power), N6 MGTVCCAUX (power)
part L pins: A11 VCCO_16 (power), A21 VCCO_14 (power), AA1 VCCO_34 (power), AA11 VCCO_33 (power), AA21 VCCO_12 (power), AB8 VCCO_33 (power), AB18 VCCO_32 (power), AC5 VCCO_34 (power), AC15 VCCO_32 (power), AC25 VCCO_12 (power), AD2 VCCO_34 (power), AD12 VCCO_33 (power), AD22 VCCO_12 (power), AE9 VCCO_33 (power), AE19 VCCO_32 (power), AF6 VCCO_34 (power), AF16 VCCO_32 (power), AF26 VCCO_12 (power), B8 VCCO_16 (power), B18 VCCO_15 (power), C15 VCCO_16 (power), C25 VCCO_14 (power), D12 VCCO_16 (power), D22 VCCO_14 (power), E9 VCCO_16 (power), E19 VCCO_15 (power), F16 VCCO_15 (power), F26 VCCO_14 (power), G13 VCCO_16 (power), G23 VCCO_14 (power), H10 VCCO_16 (power), H20 VCCO_15 (power), J17 VCCO_15 (power), K24 VCCO_13 (power), L7 VCCO_0 (power), L21 VCCO_14 (power), M18 VCCO_15 (power), N25 VCCO_13 (power), P22 VCCO_13 (power), R19 VCCO_13 (power), T6 VCCO_0 (power), T16 VCCO_13 (power), T26 VCCO_13 (power), U3 VCCO_34 (power), U23 VCCO_12 (power), V10 VCCO_33 (power), V20 VCCO_12 (power), W7 VCCO_33 (power), W17 VCCO_32 (power), Y4 VCCO_34 (power), Y14 VCCO_32 (power), Y24 VCCO_12 (power)
part M pins: E8 VCCBATT_0 (power), J9 VCCINT (power), K8 VCCINT (power), K10 VCCINT (power), K12 VCCINT (power), K14 VCCINT (power), L9 VCCINT (power), L11 VCCAUX (power), L13 VCCINT (power), L15 VCCINT (power), M8 VCCINT (power), M10 VCCAUX (power), M12 VCCADC_0 (power), M14 VCCINT (power), N9 VCCINT (power), N13 VCCBRAM (power), N15 VCCINT (power), P8 VCCAUX_IO_G0 (power), P10 VCCAUX (power), P14 VCCINT (power), R9 VCCAUX_IO_G0 (power), R13 VCCBRAM (power), R15 VCCINT (power), T8 VCCAUX_IO_G0 (power), T10 VCCAUX (power), T12 VCCBRAM (power), T14 VCCINT (power), U11 VCCAUX (power), U13 VCCBRAM (power), U15 VCCINT (power)
part N pins: A1 GND (power), A2 GND (power), A5 GND (power), A6 GND (power), A7 GND (power), A16 GND (power), A26 GND (power), AA6 GND (power), AA16 GND (power), AA26 GND (power), AB3 GND (power), AB13 GND (power), AB23 GND (power), AC10 GND (power), AC20 GND (power), AD7 GND (power), AD17 GND (power), AE4 GND (power), AE14 GND (power), AE24 GND (power), AF1 GND (power), AF11 GND (power), AF21 GND (power), B4 GND (power), B7 GND (power), B13 GND (power), B23 GND (power), C1 GND (power), C5 GND (power), C7 GND (power), C10 GND (power), C20 GND (power), D4 GND (power), D7 GND (power), D17 GND (power), E1 GND (power), E2 GND (power), E5 GND (power), E7 GND (power), E14 GND (power), E24 GND (power), F3 GND (power), F4 GND (power), F7 GND (power), F11 GND (power), F21 GND (power), G1 GND (power), G5 GND (power), G8 GND (power), G18 GND (power), H4 GND (power), H7 GND (power), H15 GND (power), H25 GND (power), J1 GND (power), J2 GND (power), J5 GND (power), J12 GND (power), J22 GND (power), K3 GND (power), K4 GND (power), K7 GND (power), K9 GND (power), K11 GND (power), K13 GND (power), K19 GND (power), L1 GND (power), L5 GND (power), L10 GND (power), L12 GND (power), L14 GND (power), L16 GND (power), L26 GND (power), M4 GND (power), M7 GND (power), M9 GND (power), M11 GNDADC_0 (power), M13 GND (power), M15 GND (power), M23 GND (power), N1 GND (power), N2 GND (power), N5 GND (power), N7 GND (power), N10 GND (power), N14 GND (power), N20 GND (power), P3 GND (power), P4 GND (power), P9 GND (power), P13 GND (power), P15 GND (power), P17 GND (power), R1 GND (power), R2 GND (power), R5 GND (power), R8 GND (power), R10 GND (power), R14 GND (power), R24 GND (power), T1 GND (power), T3 GND (power), T4 GND (power), T9 GND (power), T11 GND (power), T13 GND (power), T15 GND (power), T21 GND (power), U8 GND (power), U10 GND (power), U12 GND (power), U14 GND (power), U18 GND (power), V5 GND (power), V15 GND (power), V25 GND (power), W2 GND (power), W12 GND (power), W22 GND (power), Y9 GND (power), Y19 GND (power)
part A text: BANK 12
part B text: BANK 13
part C text: BANK 14
part D text: BANK 15
part E text: BANK 16
part F text: BANK 32
part G text: BANK 33
part H text: BANK 34